# EAGLE library part 2601-1112 (library 2601-1112)
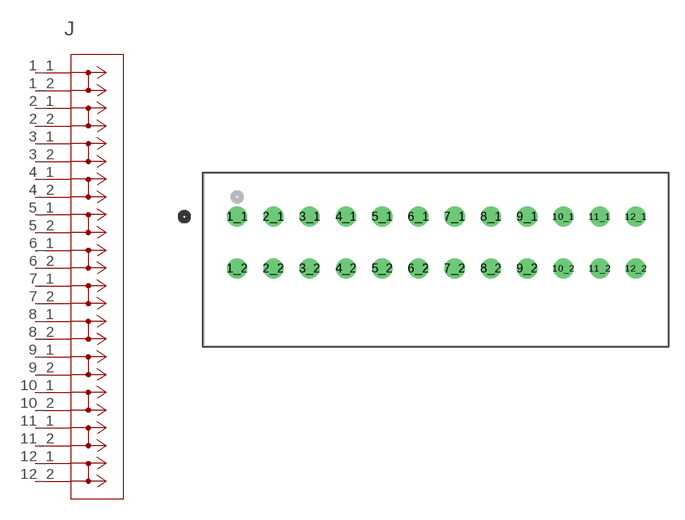
[diagram p0: symbol with the pads of CONN_2601-1112_WAG; footprint CONN_2601-1112_WAG]

Designator prefix J

## 2601-1112CONN_2601-1112_WAG (Copyright: Copyright (C) 2024 Ultra Librarian. All rights reserved.; Manufacturer_Part_Number: 2601-1112; Mfr_Name: Wago)  [CONN_2601-1112_WAG]
1_1  1_1  pas
1_2  1_2  pas
2_1  2_1  pas
2_2  2_2  pas
3_1  3_1  pas
3_2  3_2  pas
4_1  4_1  pas
4_2  4_2  pas
5_1  5_1  pas
5_2  5_2  pas
6_1  6_1  pas
6_2  6_2  pas
7_1  7_1  pas
7_2  7_2  pas
8_1  8_1  pas
8_2  8_2  pas
9_1  9_1  pas
9_2  9_2  pas
10_1  10_1  pas
10_2  10_2  pas
11_1  11_1  pas
11_2  11_2  pas
12_1  12_1  pas
12_2  12_2  pas

## Footprint CONN_2601-1112_WAG (pad centres in mm)
drill 1.295 pad 1.803 round: 1_1 0,0; 1_2 0,-5; 2_1 3.5,0; 2_2 3.5,-5; 3_1 7,0; 3_2 7,-5; 4_1 10.5,0; 4_2 10.5,-5; 5_1 14,0; 5_2 14,-5; 6_1 17.5,0; 6_2 17.5,-5; 7_1 21,0; 7_2 21,-5; 8_1 24.5,0; 8_2 24.5,-5; 9_1 28,0; 9_2 28,-5; 10_1 31.5,0; 10_2 31.5,-5; 11_1 35,0; 11_2 35,-5; 12_1 38.5,0; 12_2 38.5,-5